# EAGLE library part SN74AUP32 (library MotorDriver)
Low Power 2-Input Positive-OR gate
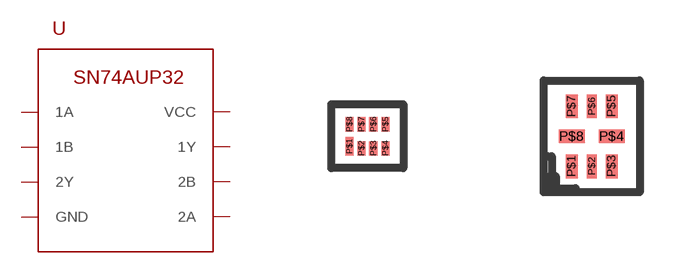
[diagram p4: symbol with the pads of X2SON; footprints X2SON, PUDFN-8]

Designator prefix U

## SN74AUP32DQE  [X2SON]
P$1  1A
P$2  1B
P$3  2Y
P$4  GND
P$5  2A
P$6  2B
P$7  1Y
P$8  VCC

## SN74AUP32RSE  [PUDFN-8]
Pads as for X2SON

## Footprint X2SON (pad centres in mm)
smd 0.2 x 0.45: P$1 -0.45,-0.25
smd 0.2 x 0.35: P$2 -0.15,-0.3; P$3 0.15,-0.3; P$4 0.45,-0.3; P$5 0.45,0.3; P$6 0.15,0.3; P$7 -0.15,0.3; P$8 -0.45,0.3

## Footprint PUDFN-8 (pad centres in mm)
smd 0.3 x 0.6: P$1 -0.5,-0.75; P$3 0.5,-0.75; P$5 0.5,0.75; P$7 -0.5,0.75
smd 0.25 x 0.6: P$2 0,-0.75; P$6 0,0.75
smd 0.65 x 0.35: P$4 0.5,0; P$8 -0.5,0